# Altium footprint library dimensions.PCBLIB: 1 footprints
Each footprint in its own frame and in the unit in brackets; x right, y up, seen from the top. Pads: shape width x height; smd on the part's side, far side on the other; paste and mask are expansions set on the pad; w line width, h text height; cw(c..) or ccw(c..) is an arc to the next point about the centre after c.
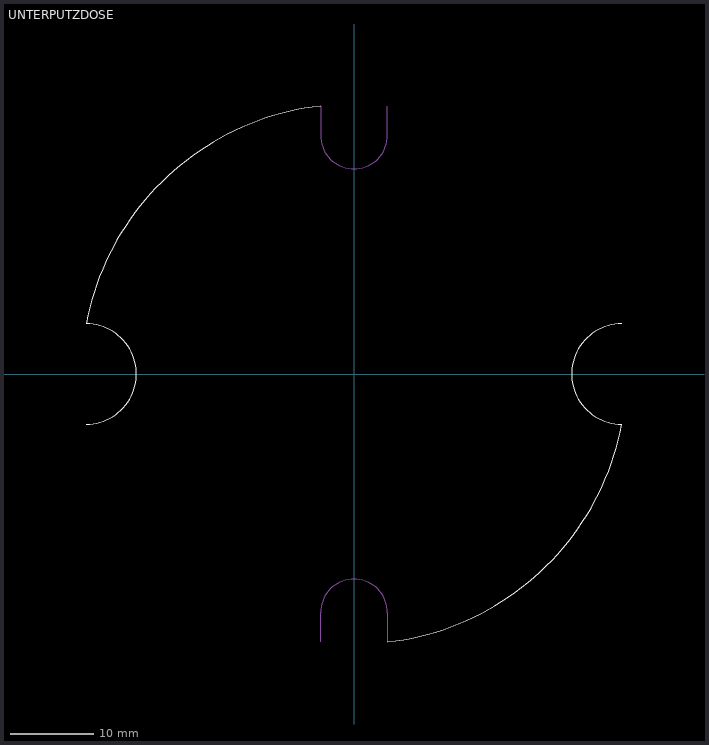
[diagram p0: the footprint, top view; thin cyan lines are the x and y axes]

## UNTERPUTZDOSE [mm]
Top Overlay:
  lines w0: -32,-6 ccw(c-32,0) -32,6 cw(c-0.357,0) -4,32 ; 32,6 ccw(c32,0) 32,-6 ; 32,-6 cw(c0.357,0) 4,-32 ccw(c0.357,0) 32,-6
Bottom Overlay:
  lines w0: -32,-6 ccw(c-0.357,0) -4,-32 ; 4,32 cw(c0.357,0) 32,6
Mechanical 1:
  lines w0: -4,-32 -4,-28.5 cw(c0,-28.5) 0,-24.5 cw(c0,-28.5) 4,-28.5 4,-32 ; -4,32 -4,28.5 ccw(c0,28.5) 0,24.5 ccw(c0,28.5) 4,28.5 4,32